# EAGLE library part LAN8710A (library eagle-book)
Microchip Low-power Ethernet Transceiver
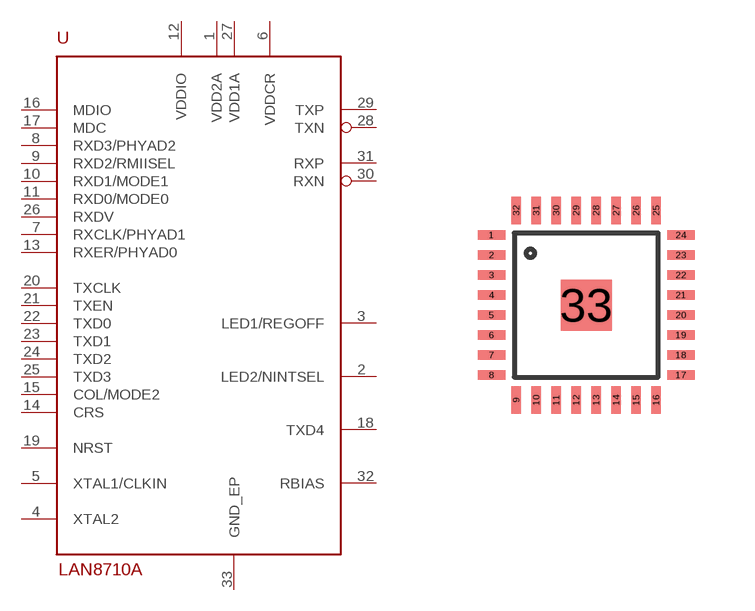
[diagram p9: symbol with the pads of QFN32; footprint QFN32]

Designator prefix U

## LAN8710A  [QFN32]
1  VDD2A  pwr
2  LED2/NINTSEL
3  LED1/REGOFF
4  XTAL2
5  XTAL1/CLKIN
6  VDDCR  pwr
7  RXCLK/PHYAD1
8  RXD3/PHYAD2
9  RXD2/RMIISEL
10  RXD1/MODE1
11  RXD0/MODE0
12  VDDIO  pwr
13  RXER/PHYAD0
14  CRS
15  COL/MODE2
16  MDIO
17  MDC
18  TXD4
19  NRST
20  TXCLK
21  TXEN
22  TXD0
23  TXD1
24  TXD2
25  TXD3
26  RXDV
27  VDD1A  pwr
28  TXN
29  TXP
30  RXN
31  RXP
32  RBIAS
33  GND_EP  pwr

## Footprint QFN32 (pad centres in mm)
32-pin quad flat pack, no-leads
smd 0.69 x 0.24: 1 -2.37,1.75; 2 -2.37,1.25; 3 -2.37,0.75; 4 -2.37,0.25; 5 -2.37,-0.25; 6 -2.37,-0.75; 7 -2.37,-1.25; 8 -2.37,-1.75; 17 2.37,-1.75; 18 2.37,-1.25; 19 2.37,-0.75; 20 2.37,-0.25; 21 2.37,0.25; 22 2.37,0.75; 23 2.37,1.25; 24 2.37,1.75
smd 0.24 x 0.69: 9 -1.75,-2.37; 10 -1.25,-2.37; 11 -0.75,-2.37; 12 -0.25,-2.37; 13 0.25,-2.37; 14 0.75,-2.37; 15 1.25,-2.37; 16 1.75,-2.37; 25 1.75,2.37; 26 1.25,2.37; 27 0.75,2.37; 28 0.25,2.37; 29 -0.25,2.37; 30 -0.75,2.37; 31 -1.25,2.37; 32 -1.75,2.37
smd 1.27 x 1.27: 33 0,0